# EAGLE library part FX23L-20S-0.5SV (library FX23L-20S-0.5SV)
Hirose FX23 Series 0.5mm 20 Way 2 Row Right Angle PCB Socket PCB Mount Board to Board Source: Datasheet <https://www.hirose.com/product/en/download_file/key_name/FX23L-20S-0.5SV/category/Drawing (2D)/doc_file_id/54947/?file_category_id=6&item_id=05732301900&is_series=>
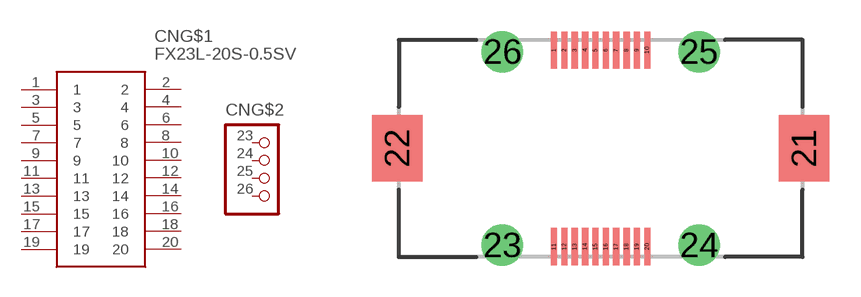
[diagram p0: symbol with the pads of FX23L-20S-0.5SV; footprint FX23L-20S-0.5SV]

Designator prefix CN; gates G$1=FX23L-20S-0.5SV G$2=CON-1X4

## FX23L-20S-0.5SV (DESCRIPTION: Hirose FX23 Series 0.5mm 20 Way 2 Row Right Angle PCB Socket PCB Mount Board to Board; HEIGHT: mm; MANUFACTURER_NAME: Hirose; MANUFACTURER_PART_NUMBER: FX23L-20S-0.5SV; RS_PART_NUMBER: 9092213P; SUPPLIER_NAME: RS)  [FX23L-20S-0.5SV]
1  G$1:1  in
2  G$1:2  in
3  G$1:3  in
4  G$1:4  in
5  G$1:5  in
6  G$1:6  in
7  G$1:7  in
8  G$1:8  in
9  G$1:9  in
10  G$1:10  in
11  G$1:11  in
12  G$1:12  in
13  G$1:13  in
14  G$1:14  in
15  G$1:15  in
16  G$1:16  in
17  G$1:17  in
18  G$1:18  in
19  G$1:19  in
20  G$1:20  in
23  G$2:1  pas
24  G$2:2  pas
25  G$2:3  pas
26  G$2:4  pas

## Footprint FX23L-20S-0.5SV (pad centres in mm)
FX23L-20S-0.5SV
smd 0.3 x 1.8: 1 -2.25,4.75; 2 -1.75,4.75; 3 -1.25,4.75; 4 -0.75,4.75; 5 -0.25,4.75; 6 0.25,4.75; 7 0.75,4.75; 8 1.25,4.75; 9 1.75,4.75; 10 2.25,4.75; 11 -2.25,-4.75; 12 -1.75,-4.75; 13 -1.25,-4.75; 14 -0.75,-4.75; 15 -0.25,-4.75; 16 0.25,-4.75; 17 0.75,-4.75; 18 1.25,-4.75; 19 1.75,-4.75; 20 2.25,-4.75
smd 2.45 x 3.2: 21 9.825,0; 22 -9.825,0
drill 1.3 pad 2: 23 -4.75,-4.675; 24 4.75,-4.675; 25 4.75,4.675; 26 -4.75,4.675